# EAGLE library part AD5271BRMZ-20 (library Analog_Device)
1024-/256-Position, 1% Resistor Tolerance Error, SPI Interface and 50-TP Memory Digital Rheostat
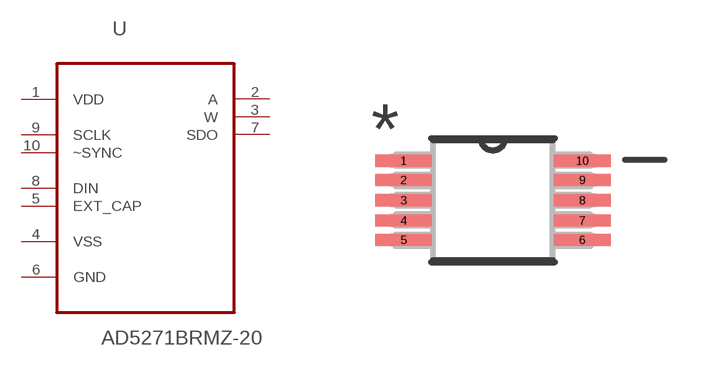
[diagram p2: symbol with the pads of SOP50P490X110-10N; footprint SOP50P490X110-10N]

Designator prefix U

## AD5271BRMZ-20 (MPN: AD5271BRMZ-20; OC_FARNELL: 1827321; OC_NEWARK: 52R8112; PACKAGE: MSOP-10; SUPPLIER: Analog Devices)  [SOP50P490X110-10N]
1  VDD  pwr
2  A  pas
3  W  pas
4  VSS  pwr
5  EXT_CAP  in
6  GND  pas
7  SDO
8  DIN  in
9  SCLK  in
10  ~SYNC  in

## Footprint SOP50P490X110-10N (pad centres in mm)
smd 1.422 x 0.305: 1 -2.235,0.991; 2 -2.235,0.508; 3 -2.235,0; 4 -2.235,-0.508; 5 -2.235,-0.991; 6 2.235,-0.991; 7 2.235,-0.508; 8 2.235,0; 9 2.235,0.508; 10 2.235,0.991